# Altium footprint library CON1X6_TH.PcbLib: 1 footprints
Each footprint in its own frame and in the unit in brackets; x right, y up, seen from the top. Pads: shape width x height; smd on the part's side, far side on the other; paste and mask are expansions set on the pad; w line width, h text height; cw(c..) or ccw(c..) is an arc to the next point about the centre after c.
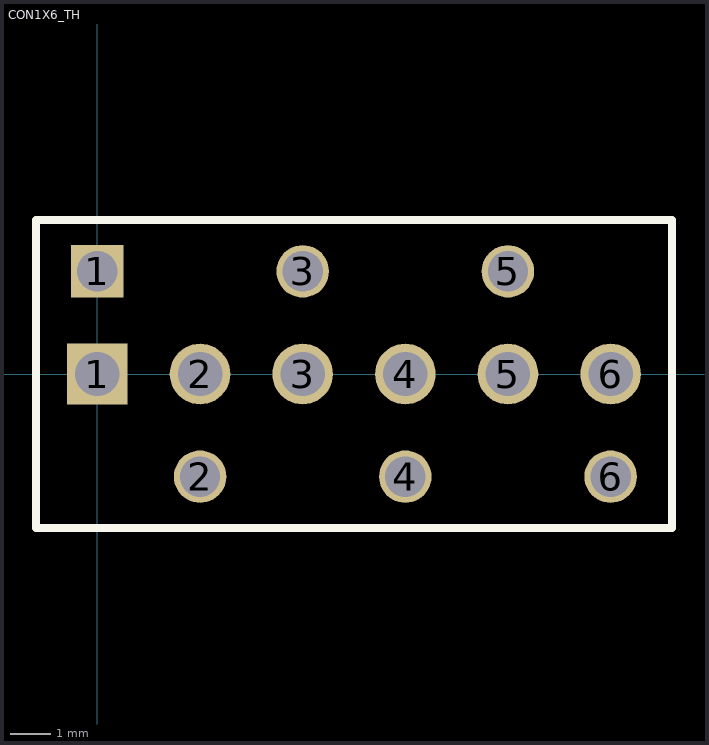
[diagram p0: the footprint, top view; thin cyan lines are the x and y axes]

## CON1X6_TH [mm] "Connector; Header; 6 Position, 2.54m pitch"
pads (12):
  rect 1.5x1.5 hole 1.1: 1(0,0)
  rect 1.3x1.3 hole 1: 1(0,2.54)
  round 1.3 hole 1: 2(2.54,-2.54) 3(5.08,2.54) 4(7.62,-2.54) 5(10.16,2.54) 6(12.7,-2.54)
  round 1.5 hole 1.1: 2(2.54,0) 3(5.08,0) 4(7.62,0) 5(10.16,0) 6(12.7,0)
Top Overlay:
  lines w0.2: -1.524,-3.81 14.224,-3.81 14.224,3.81 -1.524,3.81 -1.524,-3.81
3D body: height 5.07, standoff -3.03, extent -1.57,-2.54 14.27,2.54